# Altium footprint library COMPUTE MODULE 4.PcbLib: 1 footprints
Each footprint in its own frame and in the unit in brackets; x right, y up, seen from the top. Pads: shape width x height; smd on the part's side, far side on the other; paste and mask are expansions set on the pad; w line width, h text height; cw(c..) or ccw(c..) is an arc to the next point about the centre after c.
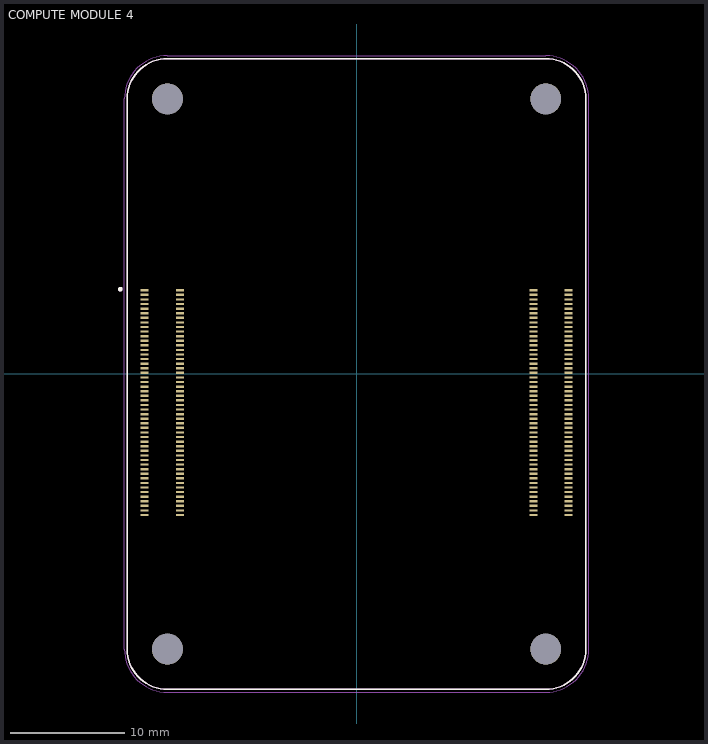
[diagram p0: the footprint, top view; thin cyan lines are the x and y axes]

## COMPUTE MODULE 4 [mm]
height 6.578
pads (204):
  rect 0.7x0.2 smd: 1(-18.5,7.3) 2(-15.42,7.3) 3(-18.5,6.9) 4(-15.42,6.9) 5(-18.5,6.5) 6(-15.42,6.5) 7(-18.5,6.1) 8(-15.42,6.1) 9(-18.5,5.7) 10(-15.42,5.7) 11(-18.5,5.3) 12(-15.42,5.3) 13(-18.5,4.9) 14(-15.42,4.9) 15(-18.5,4.5) 16(-15.42,4.5) 17(-18.5,4.1) 18(-15.42,4.1) 19(-18.5,3.7) 20(-15.42,3.7) 21(-18.5,3.3) 22(-15.42,3.3) 23(-18.5,2.9) 24(-15.42,2.9) 25(-18.5,2.5) 26(-15.42,2.5) 27(-18.5,2.1) 28(-15.42,2.1) 29(-18.5,1.7) 30(-15.42,1.7) 31(-18.5,1.3) 32(-15.42,1.3) 33(-18.5,0.9) 34(-15.42,0.9) 35(-18.5,0.5) 36(-15.42,0.5) 37(-18.5,0.1) 38(-15.42,0.1) 39(-18.5,-0.3) 40(-15.42,-0.3) 41(-18.5,-0.7) 42(-15.42,-0.7) 43(-18.5,-1.1) 44(-15.42,-1.1) 45(-18.5,-1.5) 46(-15.42,-1.5) 47(-18.5,-1.9) 48(-15.42,-1.9) 49(-18.5,-2.3) 50(-15.42,-2.3) 51(-18.5,-2.7) 52(-15.42,-2.7) 53(-18.5,-3.1) 54(-15.42,-3.1) 55(-18.5,-3.5) 56(-15.42,-3.5) 57(-18.5,-3.9) 58(-15.42,-3.9) 59(-18.5,-4.3) 60(-15.42,-4.3) 61(-18.5,-4.7) 62(-15.42,-4.7) 63(-18.5,-5.1) 64(-15.42,-5.1) 65(-18.5,-5.5) 66(-15.42,-5.5) 67(-18.5,-5.9) 68(-15.42,-5.9) 69(-18.5,-6.3) 70(-15.42,-6.3) 71(-18.5,-6.7) 72(-15.42,-6.7) 73(-18.5,-7.1) 74(-15.42,-7.1) 75(-18.5,-7.5) 76(-15.42,-7.5) 77(-18.5,-7.9) 78(-15.42,-7.9) 79(-18.5,-8.3) 80(-15.42,-8.3) 81(-18.5,-8.7) 82(-15.42,-8.7) 83(-18.5,-9.1) 84(-15.42,-9.1) 85(-18.5,-9.5) 86(-15.42,-9.5) 87(-18.5,-9.9) 88(-15.42,-9.9) 89(-18.5,-10.3) 90(-15.42,-10.3) 91(-18.5,-10.7) 92(-15.42,-10.7) 93(-18.5,-11.1) 94(-15.42,-11.1) 95(-18.5,-11.5) 96(-15.42,-11.5) 97(-18.5,-11.9) 98(-15.42,-11.9) 99(-18.5,-12.3) 100(-15.42,-12.3) 101(15.42,7.3) 102(18.5,7.3) 103(15.42,6.9) 104(18.5,6.9) 105(15.42,6.5) 106(18.5,6.5) 107(15.42,6.1) 108(18.5,6.1) 109(15.42,5.7) 110(18.5,5.7) 111(15.42,5.3) 112(18.5,5.3) 113(15.42,4.9) 114(18.5,4.9) 115(15.42,4.5) 116(18.5,4.5) 117(15.42,4.1) 118(18.5,4.1) 119(15.42,3.7) 120(18.5,3.7) 121(15.42,3.3) 122(18.5,3.3) 123(15.42,2.9) 124(18.5,2.9) 125(15.42,2.5) 126(18.5,2.5) 127(15.42,2.1) 128(18.5,2.1) 129(15.42,1.7) 130(18.5,1.7) 131(15.42,1.3) 132(18.5,1.3) 133(15.42,0.9) 134(18.5,0.9) 135(15.42,0.5) 136(18.5,0.5) 137(15.42,0.1) 138(18.5,0.1) 139(15.42,-0.3) 140(18.5,-0.3) 141(15.42,-0.7) 142(18.5,-0.7) 143(15.42,-1.1) 144(18.5,-1.1) 145(15.42,-1.5) 146(18.5,-1.5) 147(15.42,-1.9) 148(18.5,-1.9) 149(15.42,-2.3) 150(18.5,-2.3) 151(15.42,-2.7) 152(18.5,-2.7) 153(15.42,-3.1) 154(18.5,-3.1) 155(15.42,-3.5) 156(18.5,-3.5) 157(15.42,-3.9) 158(18.5,-3.9) 159(15.42,-4.3) 160(18.5,-4.3) 161(15.42,-4.7) 162(18.5,-4.7) 163(15.42,-5.1) 164(18.5,-5.1) 165(15.42,-5.5) 166(18.5,-5.5) 167(15.42,-5.9) 168(18.5,-5.9) 169(15.42,-6.3) 170(18.5,-6.3) 171(15.42,-6.7) 172(18.5,-6.7) 173(15.42,-7.1) 174(18.5,-7.1) 175(15.42,-7.5) 176(18.5,-7.5) 177(15.42,-7.9) 178(18.5,-7.9) 179(15.42,-8.3) 180(18.5,-8.3) 181(15.42,-8.7) 182(18.5,-8.7) 183(15.42,-9.1) 184(18.5,-9.1) 185(15.42,-9.5) 186(18.5,-9.5) 187(15.42,-9.9) 188(18.5,-9.9) 189(15.42,-10.3) 190(18.5,-10.3) 191(15.42,-10.7) 192(18.5,-10.7) 193(15.42,-11.1) 194(18.5,-11.1) 195(15.42,-11.5) 196(18.5,-11.5) 197(15.42,-11.9) 198(18.5,-11.9) 199(15.42,-12.3) 200(18.5,-12.3)
  round 2.7 hole 2.7 unplated: ""(-16.5,-24) ""(-16.5,24) ""(16.5,-24) ""(16.5,24)
Top Overlay:
  circle w0.2: c-20.6,7.4 r0.1
  lines w0.127: -20,-24 ccw(c-16.5,-24) -16.5,-27.5 16.5,-27.5 ccw(c16.5,-24) 20,-24 20,24 ccw(c16.5,24) 16.5,27.5 -16.5,27.5 ccw(c-16.5,24) -20,24 -20,-24
Mechanical 13:
  circle w0.2: c-20.6,7.4 r0.1
  lines w0.127: -20,-24 ccw(c-16.5,-24) -16.5,-27.5 16.5,-27.5 ccw(c16.5,-24) 20,-24 20,24 ccw(c16.5,24) 16.5,27.5 -16.5,27.5 ccw(c-16.5,24) -20,24 -20,-24
Mechanical 15:
  lines w0.05: -20.25,-24 ccw(c-16.5,-24) -16.5,-27.75 16.5,-27.75 ccw(c16.5,-24) 20.25,-24 20.25,24 ccw(c16.5,24) 16.5,27.75 -16.5,27.75 ccw(c-16.5,24) -20.25,24 -20.25,-24
3D body "step_temp.STEP": height 6.58, standoff 0, extent -20,-27.5 20,27.5